# EAGLE library part UEXT_MINI (library UEXT)
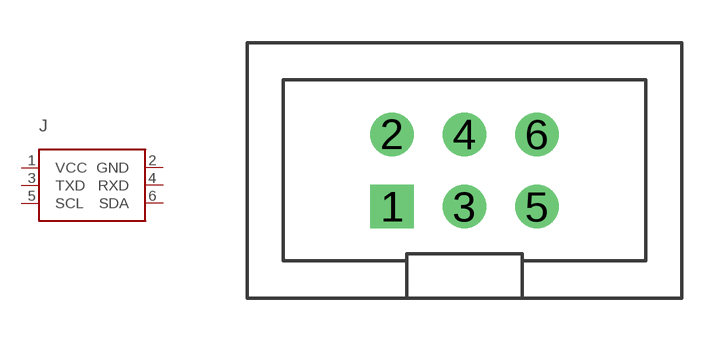
[diagram p1: symbol with the pads of UEXT_MINI_THT_0.1IN; footprint UEXT_MINI_THT_0.1IN]

Designator prefix J

## UEXT_MINI  [UEXT_MINI_THT_0.1IN]
1  VCC  pwr
2  GND  pwr
3  TXD
4  RXD
5  SCL
6  SDA

## Footprint UEXT_MINI_THT_0.1IN (pad centres in mm)
drill 1.016 square: 1 -2.54,-1.27
drill 1.016: 2 -2.54,1.27; 3 0,-1.27; 4 0,1.27; 5 2.54,-1.27; 6 2.54,1.27